# EAGLE library part TL072 (library uPlaits_SE_Library)
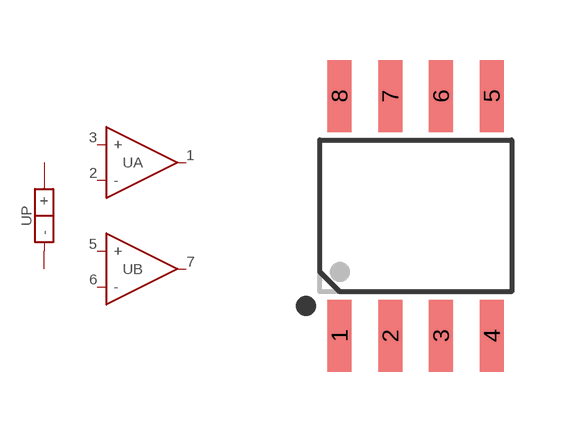
[diagram p3: symbol with the pads of SO-8; footprint SO-8]

Designator prefix U; gates P=POWER A=OPAMP B=OPAMP

## TL072-SO-8  [SO-8]
1  A:OUT  out
2  A:-  in
3  A:+  in
4  P:-
5  B:+  in
6  B:-  in
7  B:OUT  out
8  P:+

## Footprint SO-8 (pad centres in mm)
smd 0.6 x 1.8: 1 -1.905,-3; 2 -0.635,-3; 3 0.635,-3; 4 1.905,-3; 5 1.905,3; 6 0.635,3; 7 -0.635,3; 8 -1.905,3